# Altium footprint library Components_PcbLib.PcbLib: 14 footprints
Each footprint in its own frame and in the unit in brackets; x right, y up, seen from the top. Pads: shape width x height; smd on the part's side, far side on the other; paste and mask are expansions set on the pad; w line width, h text height; cw(c..) or ccw(c..) is an arc to the next point about the centre after c.
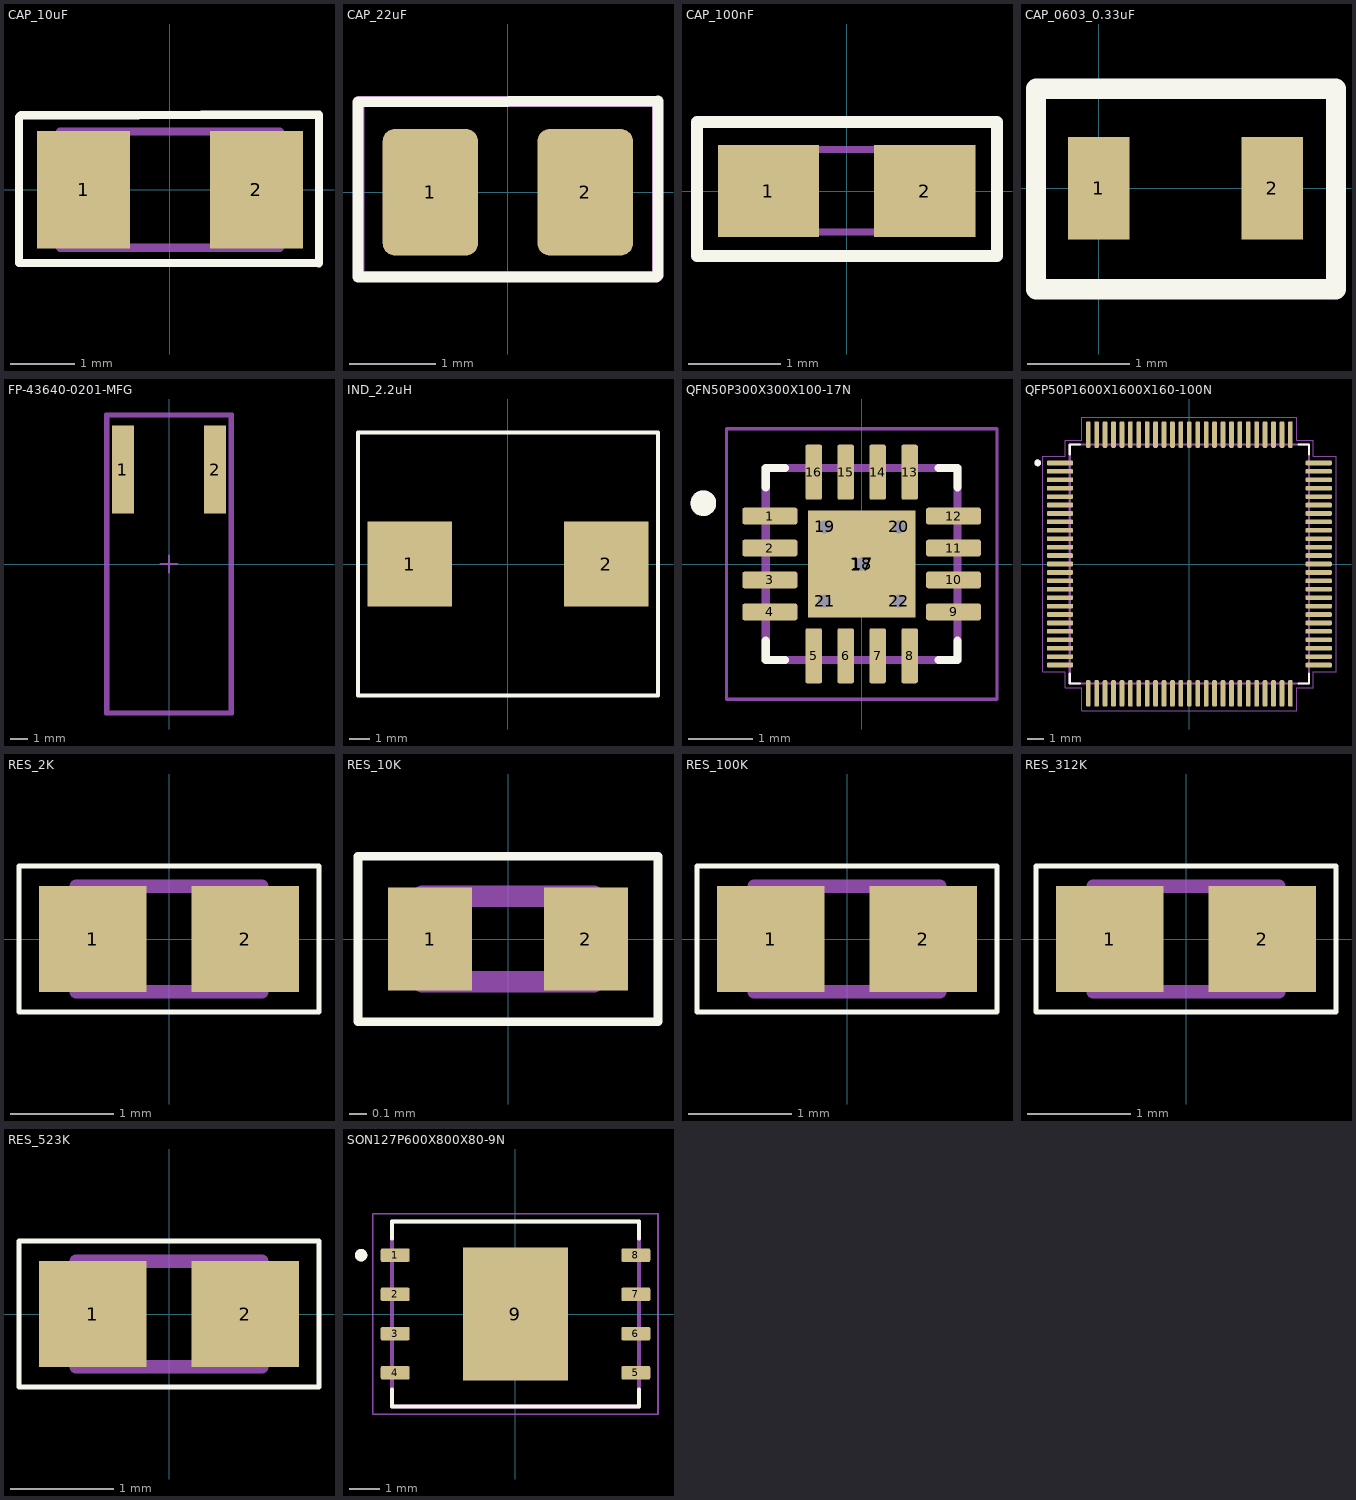
[diagram p0: the footprints below, top view; thin cyan lines are the x and y axes]

## CAP_10uF [mm]
pads (2):
  rect 1.44x1.82 smd: 1(-1.336,0) 2(1.336,0)
Top Overlay:
  lines w0.127: 2.306,-1.138 2.306,1.158 0.493,1.158 -0.496,1.153 -2.307,1.153 -2.337,1.123 -2.337,-1.102 -2.337,-1.133 2.306,-1.133
Mechanical 13:
  lines w0.127: -1.7,-0.9 1.7,-0.9 1.7,0.9 -1.7,0.9 -1.7,-0.9
3D body "step_temp.STEP": height 1.9, standoff 0, extent -1.6,-0.8 1.6,0.8

## CAP_22uF [mm]
pads (2):
  rrect25% 1.11x1.47 smd: 1(-0.9,0) 2(0.9,0)
Top Overlay:
  lines w0.127: 1.727,-0.986 -1.742,-0.986 -1.742,1.052 1.748,1.062 1.748,-0.965
Mechanical 13:
  lines w0.127: -1.732,-0.98 1.742,-0.98 1.742,1.057 -1.732,1.057 -1.732,-0.98
3D body "step_temp.STEP": height 1.45, standoff 0, extent -1,-0.625 1,0.625

## CAP_100nF [mm]
pads (2):
  rect 1.1x1 smd: 1(-0.85,0) 2(0.85,0)
Top Overlay:
  lines w0.127: 0.163,-0.706 -0.137,-0.706 ; -0.137,-0.706 -1.626,-0.706 -1.626,0.752 -0.127,0.752 1.636,0.752 1.636,-0.706 -0.137,-0.706
Mechanical 13:
  lines w0.076: -0.762,-0.442 0.803,-0.442 0.803,0.452 -0.762,0.452 -0.762,-0.442
3D body "step_temp.STEP": height 0.9, standoff 0, extent -0.8,-0.4 0.8,0.4

## CAP_0603_0.33uF [mm]
pads (2):
  rect 0.6x1 smd: 1(0,0) 2(1.7,0)
Top Overlay:
  lines w0.2: -0.613,-0.991 -0.613,0.975 2.323,0.975 2.323,-0.991 -0.613,-0.991
3D body "CC0603KRX7R8BB334.step": height 0.8, standoff 0, extent 0.059,-0.432 1.659,0.468

## FP-43640-0201-MFG [mil]
pads (2):
  rect 50x200 smd mask+4: 1(-105,215) 2(105,215)
Top 3D Body:
  lines w7.87: -139.76,-337.4 -139.76,337.4 139.76,337.4 139.76,-337.4 -139.76,-337.4
Top Assembly:
  lines w7.87: -143.7,-341.34 -143.7,341.34 143.7,341.34 143.7,-341.34 -143.7,-341.34
Top Courtyard:
  lines w7.87: -143.7,-341.34 -143.7,341.34 143.7,341.34 143.7,-341.34 -143.7,-341.34
Top Component Center:
  lines w3.94: -19.68,0 19.68,0 ; 0,-19.68 0,19.68
3D body "Conn_Molex_43640-0201_eec.STEP": height 191.13, standoff -38, extent -135.04,-332.48 134.65,332.48

## IND_2.2uH [mm]
pads (2):
  rect 4.1x4.1 smd: 1(-4.75,0) 2(4.75,0)
Top Overlay:
  lines w0.2: -7.25,-6.35 7.25,-6.35 7.25,6.35 -7.25,6.35 -7.25,0 -7.25,-6.35
3D body "Download_WE-PD_1260_STP+%28rev1%29.stp": height 5.46, standoff -0.2, extent -6,-6.031 6,5.969

## QFN50P300X300X100-17N [mm]
pads (22):
  rrect25% 0.86x0.26 smd: 1(-1.435,0.75) 2(-1.435,0.25) 3(-1.435,-0.25) 4(-1.435,-0.75) 9(1.435,-0.75) 10(1.435,-0.25) 11(1.435,0.25) 12(1.435,0.75)
  rrect25% 0.26x0.86 smd: 5(-0.75,-1.435) 6(-0.25,-1.435) 7(0.25,-1.435) 8(0.75,-1.435) 13(0.75,1.435) 14(0.25,1.435) 15(-0.25,1.435) 16(-0.75,1.435)
  rect 1.68x1.68 smd paste-0.31: 17(0,0)
  round 0.4 hole 0.2 mask+0: 18(0,0) 19(-0.58,0.58) 20(0.58,0.58) 21(-0.58,-0.58) 22(0.58,-0.58)
Top Overlay:
  circle w0.2: c-2.475,0.95 r0.1
  lines w0.127: -1.5,-1.2 -1.5,-1.5 -1.2,-1.5 ; -1.5,1.2 -1.5,1.5 -1.2,1.5 ; 1.2,-1.5 1.5,-1.5 1.5,-1.2 ; 1.2,1.5 1.5,1.5 1.5,1.2
Mechanical 13:
  circle w0.2: c-2.475,0.95 r0.1
  lines w0.127: -1.5,-1.5 1.5,-1.5 1.5,1.5 -1.5,1.5 -1.5,-1.5
Mechanical 15:
  lines w0.05: -2.115,-2.115 2.115,-2.115 2.115,2.115 -2.115,2.115 -2.115,-2.115
3D body "step_temp.STEP": height 1, standoff 0, extent -1.5,-1.5 1.5,1.5

## QFP50P1600X1600X160-100N [mm]
height 1.6
pads (100):
  rrect50% 1.56x0.28 smd: 1(-7.68,6) 2(-7.68,5.5) 3(-7.68,5) 4(-7.68,4.5) 5(-7.68,4) 6(-7.68,3.5) 7(-7.68,3) 8(-7.68,2.5) 9(-7.68,2) 10(-7.68,1.5) 11(-7.68,1) 12(-7.68,0.5) 13(-7.68,0) 14(-7.68,-0.5) 15(-7.68,-1) 16(-7.68,-1.5) 17(-7.68,-2) 18(-7.68,-2.5) 19(-7.68,-3) 20(-7.68,-3.5) 21(-7.68,-4) 22(-7.68,-4.5) 23(-7.68,-5) 24(-7.68,-5.5) 25(-7.68,-6) 51(7.68,-6) 52(7.68,-5.5) 53(7.68,-5) 54(7.68,-4.5) 55(7.68,-4) 56(7.68,-3.5) 57(7.68,-3) 58(7.68,-2.5) 59(7.68,-2) 60(7.68,-1.5) 61(7.68,-1) 62(7.68,-0.5) 63(7.68,0) 64(7.68,0.5) 65(7.68,1) 66(7.68,1.5) 67(7.68,2) 68(7.68,2.5) 69(7.68,3) 70(7.68,3.5) 71(7.68,4) 72(7.68,4.5) 73(7.68,5) 74(7.68,5.5) 75(7.68,6)
  rrect50% 0.28x1.56 smd: 26(-6,-7.68) 27(-5.5,-7.68) 28(-5,-7.68) 29(-4.5,-7.68) 30(-4,-7.68) 31(-3.5,-7.68) 32(-3,-7.68) 33(-2.5,-7.68) 34(-2,-7.68) 35(-1.5,-7.68) 36(-1,-7.68) 37(-0.5,-7.68) 38(0,-7.68) 39(0.5,-7.68) 40(1,-7.68) 41(1.5,-7.68) 42(2,-7.68) 43(2.5,-7.68) 44(3,-7.68) 45(3.5,-7.68) 46(4,-7.68) 47(4.5,-7.68) 48(5,-7.68) 49(5.5,-7.68) 50(6,-7.68) 76(6,7.68) 77(5.5,7.68) 78(5,7.68) 79(4.5,7.68) 80(4,7.68) 81(3.5,7.68) 82(3,7.68) 83(2.5,7.68) 84(2,7.68) 85(1.5,7.68) 86(1,7.68) 87(0.5,7.68) 88(0,7.68) 89(-0.5,7.68) 90(-1,7.68) 91(-1.5,7.68) 92(-2,7.68) 93(-2.5,7.68) 94(-3,7.68) 95(-3.5,7.68) 96(-4,7.68) 97(-4.5,7.68) 98(-5,7.68) 99(-5.5,7.68) 100(-6,7.68)
Top Overlay:
  circle w0.2: c-9,6 r0.1
  lines w0.127: -7.1,-6.5 -7.1,-7.1 -6.5,-7.1 ; -7.1,6.5 -7.1,7.1 -6.5,7.1 ; 6.5,-7.1 7.1,-7.1 7.1,-6.5 ; 6.5,7.1 7.1,7.1 7.1,6.5
Mechanical 13:
  circle w0.2: c-9,6 r0.1
  lines w0.127: -7.1,-7.1 -7.1,7.1 7.1,7.1 7.1,-7.1 -7.1,-7.1
Mechanical 15:
  lines w0.05: -8.71,-6.39 -8.71,6.39 -7.35,6.39 -7.35,7.35 -6.39,7.35 -6.39,8.71 6.39,8.71 6.39,7.35 7.35,7.35 7.35,6.39 8.71,6.39 8.71,-6.39 7.35,-6.39 7.35,-7.35 6.39,-7.35 6.39,-8.71 -6.39,-8.71 -6.39,-7.35 -7.35,-7.35 -7.35,-6.39 -8.71,-6.39
3D body "step_temp.STEP": height 1.6, standoff 0, extent -8,-8 8,8

## RES_2K [mm]
pads (2):
  rect 1.04x1.02 smd: 1(-0.735,0) 2(0.735,0)
Top Overlay:
  lines w0.05: -1.449,-0.706 1.449,-0.706 1.449,0.706 -1.449,0.706 -1.449,-0.706
Mechanical 13:
  lines w0.127: -0.9,-0.51 0.9,-0.51 0.9,0.51 -0.9,0.51 -0.9,-0.51
3D body "step_temp.STEP": height 0.55, standoff 0, extent -0.8,-0.4 0.8,0.4

## RES_10K [mm]
pads (2):
  rect 0.49x0.6 smd: 1(-0.455,0) 2(0.455,0)
Top Overlay:
  lines w0.05: -0.876,-0.483 -0.876,0.483 0.876,0.483 0.876,-0.483 -0.876,-0.483
Mechanical 13:
  lines w0.127: -0.5,-0.25 -0.5,0.25 0.5,0.25 0.5,-0.25 -0.5,-0.25
Mechanical 29:
  text ".Designator" at -1.735,0.433 h0.51
3D body "RC0402FR-0710KL.STEP": height 0.41, standoff 0.01, extent -0.5,-0.246 0.5,0.254

## RES_100K [mm]
pads (2):
  rect 1.04x1.02 smd: 1(-0.735,0) 2(0.735,0)
Top Overlay:
  lines w0.05: -1.449,-0.706 1.449,-0.706 1.449,0.706 -1.449,0.706 -1.449,-0.706
Mechanical 13:
  lines w0.127: -0.9,-0.51 0.9,-0.51 0.9,0.51 -0.9,0.51 -0.9,-0.51
3D body "step_temp.STEP": height 0.55, standoff 0, extent -0.8,-0.4 0.8,0.4

## RES_312K [mm]
pads (2):
  rect 1.04x1.02 smd: 1(-0.735,0) 2(0.735,0)
Top Overlay:
  lines w0.05: -1.449,-0.706 -1.449,0.706 1.449,0.706 1.449,-0.706 -1.449,-0.706
Mechanical 13:
  lines w0.127: -0.9,-0.51 -0.9,0.51 0.9,0.51 0.9,-0.51 -0.9,-0.51
3D body "step_temp.STEP": height 0.55, standoff 0, extent -0.8,-0.4 0.8,0.4

## RES_523K [mm]
pads (2):
  rect 1.04x1.02 smd: 1(-0.735,0) 2(0.735,0)
Top Overlay:
  lines w0.05: -1.449,-0.706 1.449,-0.706 1.449,0.706 -1.449,0.706 -1.449,-0.706
Mechanical 13:
  lines w0.127: -0.9,-0.51 0.9,-0.51 0.9,0.51 -0.9,0.51 -0.9,-0.51
3D body "step_temp.STEP": height 0.55, standoff 0, extent -0.8,-0.4 0.8,0.4

## SON127P600X800X80-9N [mm]
height 0.8
pads (9):
  rrect25% 0.94x0.44 smd: 1(-3.895,1.905) 2(-3.895,0.635) 3(-3.895,-0.635) 4(-3.895,-1.905) 5(3.895,-1.905) 6(3.895,-0.635) 7(3.895,0.635) 8(3.895,1.905)
  rect 3.4x4.3 smd paste-3: 9(0,0)
Top Overlay:
  circle w0.2: c-5,1.905 r0.1
  lines w0.127: -4,-2.445 -4,-3 4,-3 4,-2.445 ; -4,2.445 -4,3 4,3 4,2.445
Top Paste:
  region: -0.23,0.23 -1.24,0.23 -1.24,1.69 -0.23,1.69
  region: 1.24,0.23 0.23,0.23 0.23,1.69 1.24,1.69
  region: -0.23,-1.69 -1.24,-1.69 -1.24,-0.23 -0.23,-0.23
  region: 1.24,-1.69 0.23,-1.69 0.23,-0.23 1.24,-0.23
Mechanical 13:
  circle w0.2: c-5,1.905 r0.1
  lines w0.127: -4,-3 4,-3 4,3 -4,3 -4,-3
Mechanical 15:
  lines w0.05: -4.615,-3.25 -4.615,3.25 4.615,3.25 4.615,-3.25 -4.615,-3.25
3D body "step_temp.STEP": height 0.8, standoff -0.05, extent -4,-3 4,3